# Altium footprint library SIP480W100P750L2530H1340Q4.PcbLib: 1 footprints
Each footprint in its own frame and in the unit in brackets; x right, y up, seen from the top. Pads: shape width x height; smd on the part's side, far side on the other; paste and mask are expansions set on the pad; w line width, h text height; cw(c..) or ccw(c..) is an arc to the next point about the centre after c.
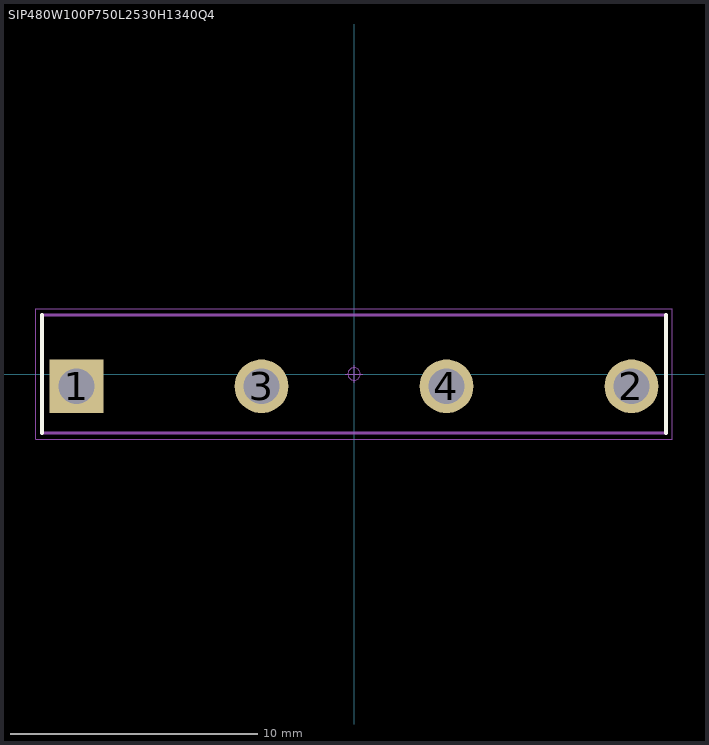
[diagram p0: the footprint, top view; thin cyan lines are the x and y axes]

## SIP480W100P750L2530H1340Q4 [mm] "SIP, 7.50 mm pitch; 4 pin, 25.30 mm L X 4.80 mm W X 13.40 mm H body"
height 13.4
pads (4):
  rect 2.18x2.18 / inner round 2.18 / far side rect 2.18x2.18 hole 1.45 paste-2.18: 1(-11.25,-0.5)
  round 2.18 hole 1.45 paste-2.18: 2(11.25,-0.5) 3(-3.75,-0.5) 4(3.75,-0.5)
Top Overlay:
  lines w0.15: -12.65,-2.4 -12.65,2.4 ; 12.65,-2.4 12.65,2.4
Mechanical 3:
  lines w0.12: -12.65,-2.4 -12.65,2.4 12.65,2.4 12.65,-2.4 -12.65,-2.4
Mechanical 5:
  lines w0.025: -11.8,-0.85 -10.7,-0.85 -10.7,-0.15 -11.8,-0.15 -11.8,-0.85 ; -4.3,-0.85 -3.2,-0.85 -3.2,-0.15 -4.3,-0.15 -4.3,-0.85 ; 3.2,-0.85 4.3,-0.85 4.3,-0.15 3.2,-0.15 3.2,-0.85 ; 10.7,-0.85 11.8,-0.85 11.8,-0.15 10.7,-0.15 10.7,-0.85
Mechanical 7:
  circle w0.05: c0,0 r0.25
  lines w0.025: -12.65,-2.4 -12.65,2.4 12.65,2.4 12.65,-2.4 -12.65,-2.4
  lines w0.05: -0.35,0 0.35,0 ; 0,-0.35 0,0.35 ; -12.9,-2.65 -12.9,2.65 12.9,2.65 12.9,-2.65 -12.9,-2.65
3D body "SIP480W100P750L2530H1340Q4.STEP": height 13.4, standoff -2, extent -12.65,-2.4 12.65,2.4